# Altium footprint library KILEX LIBRARY PCB.PcbLib: 35 footprints (part 1 of 3)
Each footprint in its own frame and in the unit in brackets; x right, y up, seen from the top. Pads: shape width x height; smd on the part's side, far side on the other; paste and mask are expansions set on the pad; w line width, h text height; cw(c..) or ccw(c..) is an arc to the next point about the centre after c.
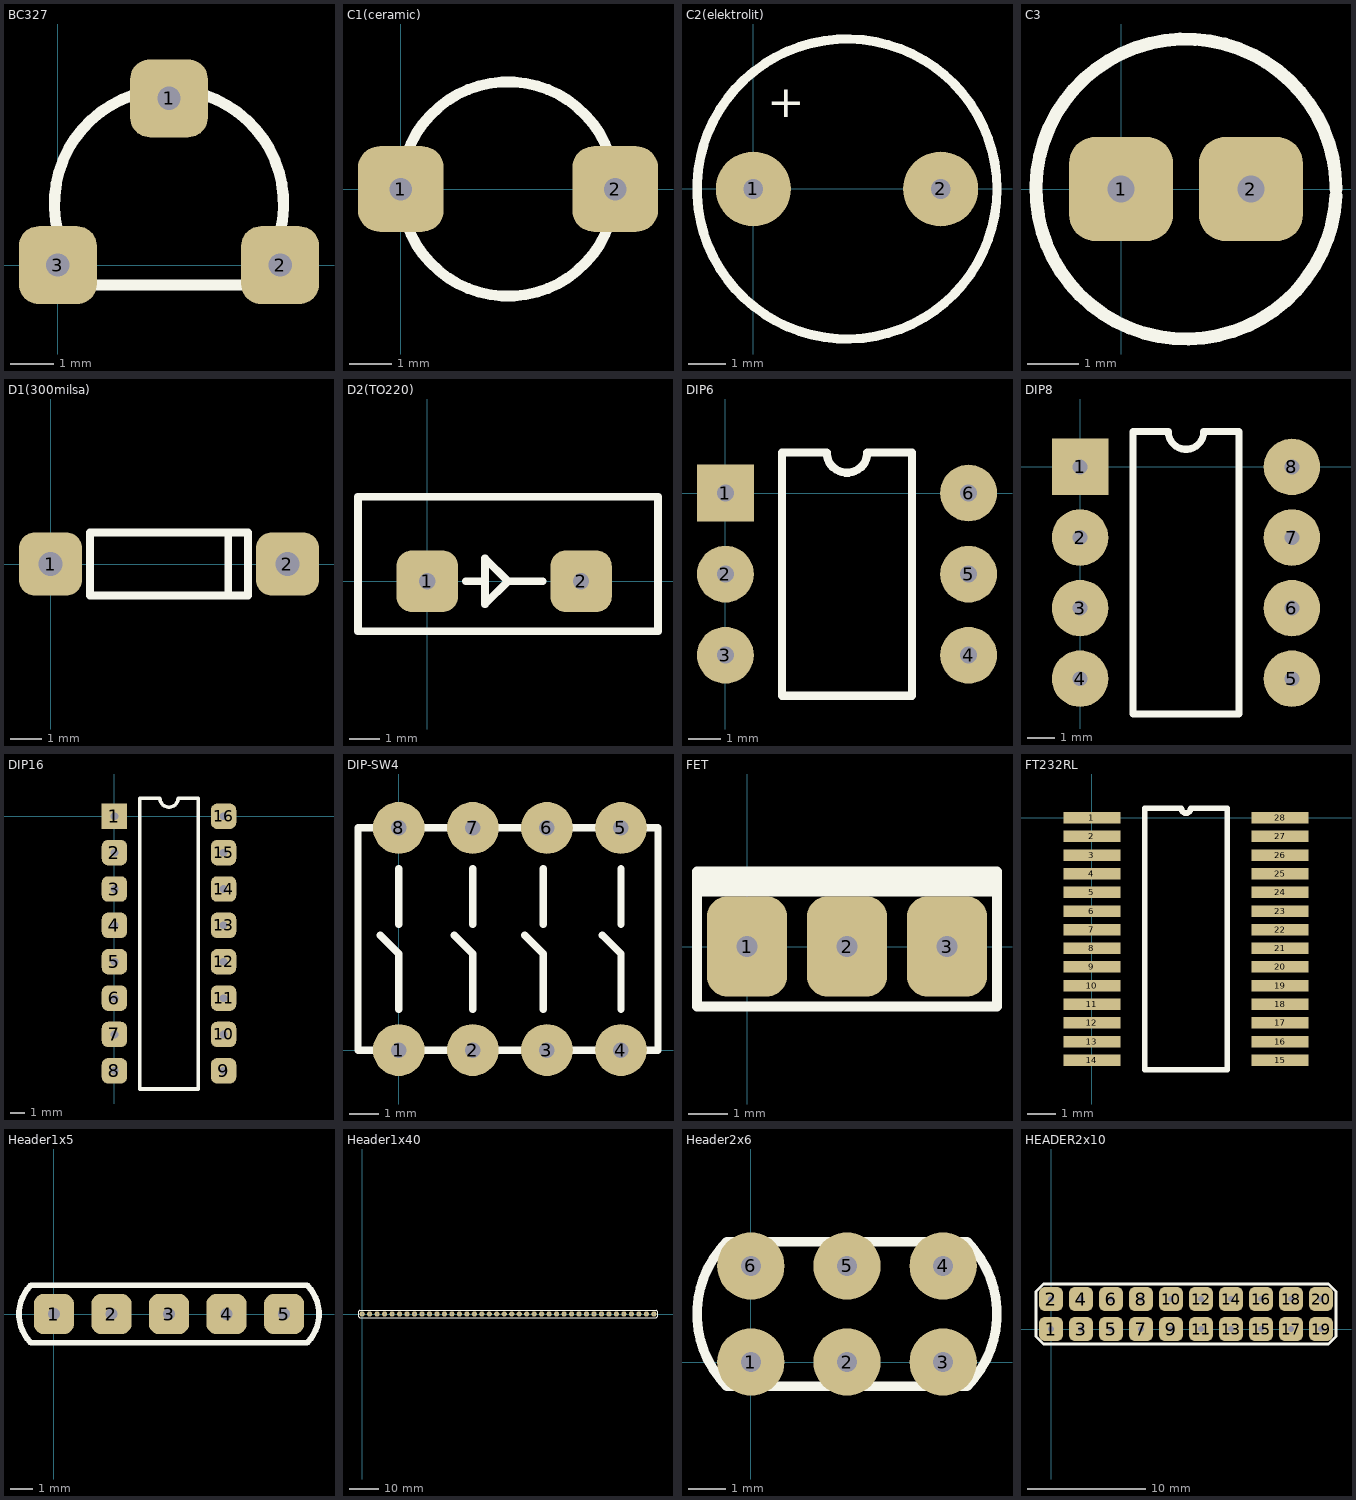
[diagram p0: the footprints below, top view; thin cyan lines are the x and y axes]

## BC327 [mil]
pads (3):
  rrect50% 70x70 hole 21: 1(100,150) 2(200,0) 3(0,0)
Top Overlay:
  lines w10: 27.11,-17.89 cw(c100,55) 172.89,-17.89 27.11,-17.89
3D body: height 385.04, standoff -103.15, extent -15,-9.45 205.08,159.45

## C1(ceramic) [mil]
pads (2):
  rrect50% 80x80 hole 21: 1(0,0) 2(200,0)
Top Overlay:
  circle w10: c100,0 r100
3D body: height 257.8, standoff -76.85, extent -37.44,-33.39 237.8,33.4

## C2(elektrolit) [mil]
pads (2):
  round 80 hole 21: 1(0,0) 2(200,0)
Top Overlay:
  circle w10: c100,0 r160.08
  text "+" at 15,65 h60
3D body: height 522.44, standoff -48.43, extent -57.48,-157.48 257.48,157.48

## C3 [mil]
pads (2):
  rrect50% 80x80 hole 21: 1(0,0) 2(100,0)
Top Overlay:
  lines w10: 165.33,-5.01 cw(c50,0) 165.43,0
3D body: height 800, standoff -114.17, extent -149.99,-199.49 250.01,199.49

## D1(300milsa) [mil]
pads (2):
  rrect50% 80x80 hole 30: 1(0,0) 2(300,0)
Top Overlay:
  lines w10: 225,-40 225,40 ; 50,-40 50,40 250,40 250,-40 50,-40
3D body: height 99.61, standoff -78.74, extent -10,-47.28 317.56,47.28

## D2(TO220) [mil]
pads (2):
  rrect50% 80x80 hole 21: 1(0,0) 2(200,0)
Top Overlay:
  lines w10: 50,0 75,0 ; 150,0 105,0 ; 105,0 75,-30 75,30 105,0 ; -90,-65 -90,110 300,110 300,-65 -90,-65
3D body: height 769.24, standoff -392.18, extent -91.85,-67.16 301.85,110

## DIP6 [mil]
pads (6):
  rect 70x70 hole 21: 1(0,0)
  round 70 hole 21: 2(0,-100) 3(0,-200) 4(300,-200) 5(300,-100) 6(300,0)
Top Overlay:
  lines w10: 70,-250 70,50 125,50 ccw(c150,50) 175,50 230,50 230,-250 70,-250
3D body: height 179.69, standoff -119.13, extent -7.48,-260 307.48,58.11

## DIP8 [mil]
pads (8):
  rect 80x80 hole 21: 1(0,0)
  round 80 hole 21: 2(0,-100) 3(0,-200) 4(0,-300) 5(300,-300) 6(300,-200) 7(300,-100) 8(300,0)
Top Overlay:
  lines w10: 75,-350 75,50 125,50 ccw(c150,50) 175,50 225,50 225,-350 75,-350

## DIP16 [mil]
pads (16):
  rect 70x70 hole 21: 1(0,0)
  rrect50% 70x70 hole 21: 2(0,-100) 3(0,-200) 4(0,-300) 5(0,-400) 6(0,-500) 7(0,-600) 8(0,-700) 9(300,-700) 10(300,-600) 11(300,-500) 12(300,-400) 13(300,-300) 14(300,-200) 15(300,-100) 16(300,0)
Top Overlay:
  lines w10: 70,-750 230,-750 230,50 175,50 cw(c150,50) 125,50 70,50 70,-750

## DIP-SW4 [mil]
pads (8):
  round 70 hole 21: 1(0,0) 2(100,0) 3(200,0) 4(300,0) 5(300,300) 6(200,300) 7(100,300) 8(0,300)
Top Overlay:
  lines w10: -25,155 0,130 0,100 0,55 ; 0,170 0,245 ; 75,155 100,130 100,100 100,55 ; 100,170 100,245 ; 170,155 195,130 195,100 195,55 ; 195,170 195,245 ; 275,155 300,130 300,100 300,55 ; 300,170 300,245 ; -55,0 -55,300 350,300 350,0 -55,0

## FET [mil]
pads (3):
  rrect50% 80x100 hole 21: 1(0,0) 2(100,0) 3(200,0)
Top Overlay:
  lines w10: -50,55 250,55 ; -50,65 250,65 250,75 ; 250,75 -50,75 -50,-60 250,-60 250,75

## FT232RL [mm]
pads (28):
  rect 2x0.4 smd: 1(0,0) 2(0,-0.65) 3(0,-1.3) 4(0,-1.95) 5(0,-2.6) 6(0,-3.25) 7(0,-3.9) 8(0,-4.55) 9(0,-5.2) 10(0,-5.85) 11(0,-6.5) 12(0,-7.15) 13(0,-7.8) 14(0,-8.45) 15(6.55,-8.45) 16(6.55,-7.8) 17(6.55,-7.15) 18(6.55,-6.5) 19(6.55,-5.85) 20(6.55,-5.2) 21(6.55,-4.55) 22(6.55,-3.9) 23(6.55,-3.25) 24(6.55,-2.6) 25(6.55,-1.95) 26(6.55,-1.3) 27(6.55,-0.65) 28(6.55,0)
Top Overlay:
  lines w0.2: 1.835,-8.775 1.835,0.325 3.113,0.325 ccw(c3.275,0.325) 3.437,0.325 4.715,0.325 4.715,-8.775 1.835,-8.775

## Header1x5 [mil]
pads (5):
  rrect50% 70x70 hole 21: 1(0,0) 2(100,0) 3(200,0) 4(300,0) 5(400,0)
Top Overlay:
  lines w10: -40,-50 cw(c10,0) -40,50 440,50 cw(c390,0) 440,-50 -40,-50

## Header1x40 [mil]
pads (40):
  round 70 hole 21: 1(0,0) 2(100,0) 3(200,0) 4(300,0) 5(400,0) 6(500,0) 7(600,0) 8(700,0) 9(800,0) 10(900,0) 11(1000,0) 12(1100,0) 13(1200,0) 14(1300,0) 15(1400,0) 16(1500,0) 17(1600,0) 18(1700,0) 19(1800,0) 20(1900,0) 21(2000,0) 22(2100,0) 23(2200,0) 24(2300,0) 25(2400,0) 26(2500,0) 27(2600,0) 28(2700,0) 29(2800,0) 30(2900,0) 31(3000,0) 32(3100,0) 33(3200,0) 34(3300,0) 35(3400,0) 36(3500,0) 37(3600,0) 38(3700,0) 39(3800,0) 40(3900,0)
Top Overlay:
  lines w10: -35,-50 cw(c15,0) -35,50 3935,50 cw(c3885,0) 3935,-50 -35,-50

## Header2x6 [mil]
pads (6):
  round 70 hole 21: 1(0,0) 2(100,0) 3(200,0) 4(200,100) 5(100,100) 6(0,100)
Top Overlay:
  lines w10: -25,-25 cw(c50,50) -25,125 225,125 cw(c150,50) 225,-25 -25,-25

## HEADER2x10 [mil]
pads (20):
  rrect50% 80x80 hole 21: 1(0,0) 2(0,100) 3(100,0) 4(100,100) 5(200,0) 6(200,100) 7(300,0) 8(300,100) 9(400,0) 10(400,100) 11(500,0) 12(500,100) 13(600,0) 14(600,100) 15(700,0) 16(700,100) 17(800,0) 18(800,100) 19(900,0) 20(900,100)
Top Overlay:
  lines w10: -50,-25 -50,125 -25,150 925,150 950,125 950,-25 925,-50 -25,-50 -50,-25
3D body: height 293.94, standoff -195, extent -55,-176.02 945,150